# Altium footprint library Connector.PcbLib: 97 footprints (part 1 of 7)
Each footprint in its own frame and in the unit in brackets; x right, y up, seen from the top. Pads: shape width x height; smd on the part's side, far side on the other; paste and mask are expansions set on the pad; w line width, h text height; cw(c..) or ccw(c..) is an arc to the next point about the centre after c.
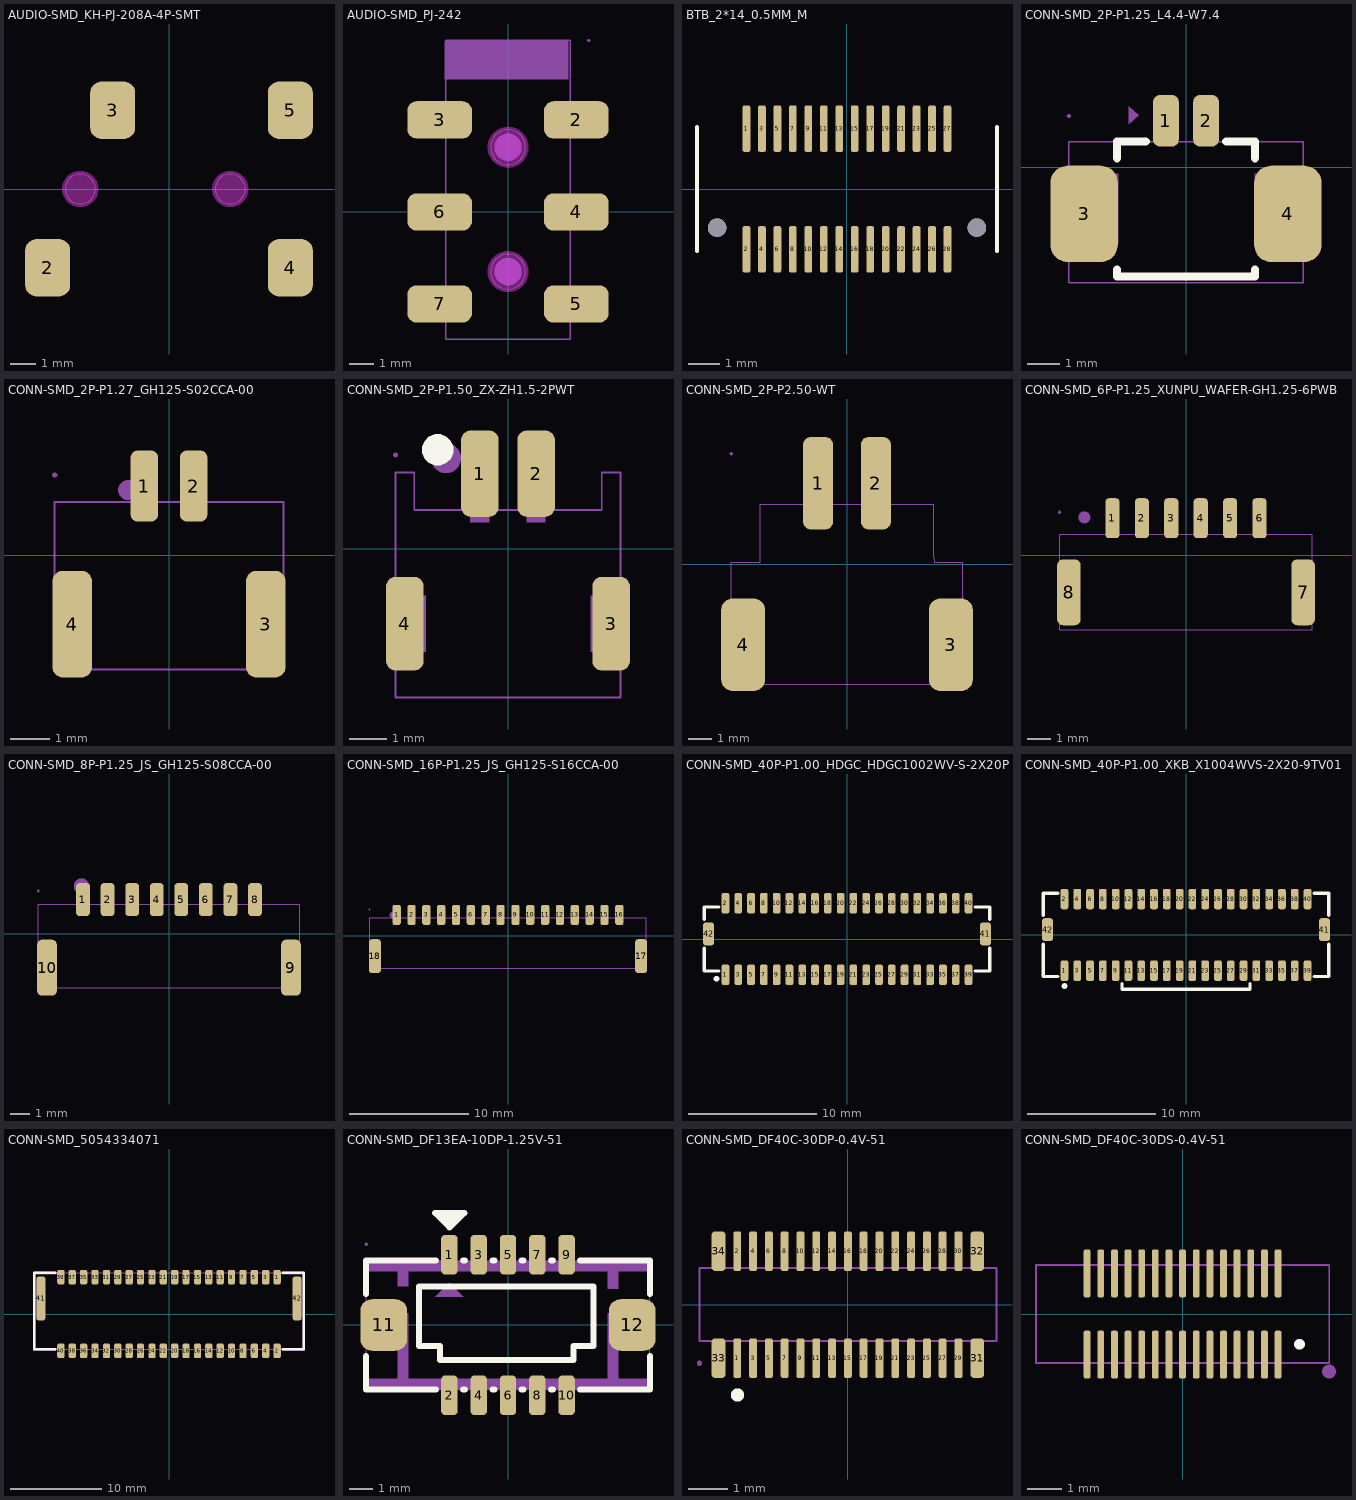
[diagram p0: the footprints below, top view; thin cyan lines are the x and y axes]

## AUDIO-SMD_KH-PJ-208A-4P-SMT [mm]
pads (4):
  rrect50% 1.8x2.3 smd paste+0 mask+0.05: 2(-4.85,-3.15) 3(-2.25,3.15) 4(4.85,-3.15) 5(4.85,3.15)
Keep-Out Layer:
  board cut-out: -2.95,0 -2.95,0.119 -3.041,0.34 -3.21,0.509 -3.431,0.6 -3.669,0.6 -3.89,0.509 -4.059,0.34 -4.15,0.119 -4.15,0 -4.15,-0.119 -4.059,-0.34 -3.89,-0.509 -3.67,-0.6 -3.431,-0.6 -3.21,-0.509 -3.041,-0.34 -2.95,-0.119 -2.95,0
  board cut-out: 3.05,0 3.05,0.119 2.959,0.34 2.79,0.509 2.569,0.6 2.331,0.6 2.11,0.509 1.941,0.34 1.85,0.119 1.85,0 1.85,-0.119 1.941,-0.34 2.11,-0.509 2.33,-0.6 2.569,-0.6 2.79,-0.509 2.959,-0.34 3.05,-0.119 3.05,0
Mechanical 1:
  circle w0.025: c-3.55,0 r0.6
  circle w0.025: c2.45,0 r0.6
Multi-Layer keep-out:
  circle w0.254: c-3.55,0 r0.6
  circle w0.254: c2.45,0 r0.6
3D body "3D_PCB1_2024-08-07.step": height 4.47, standoff -0.83, extent -8.001,-3.75 5.499,3.75

## AUDIO-SMD_PJ-242 [mm]
pads (6):
  rrect50% 2.6x1.5 smd: 2(2.75,3.7) 3(-2.75,3.7) 4(2.75,0) 5(2.75,-3.7) 6(-2.75,0) 7(-2.75,-3.7)
Keep-Out Layer:
  board cut-out: 0.7,2.6 0.7,2.692 0.652,2.87 0.56,3.03 0.43,3.16 0.27,3.252 0.092,3.3 -0.092,3.3 -0.27,3.252 -0.43,3.16 -0.56,3.03 -0.652,2.87 -0.7,2.692 -0.7,2.6 -0.7,2.508 -0.652,2.33 -0.56,2.17 -0.43,2.04 -0.27,1.948 -0.092,1.9 0.092,1.9 0.27,1.948 0.43,2.04 0.56,2.17 0.652,2.33 0.7,2.508 0.7,2.6
  board cut-out: 0.7,-2.4 0.7,-2.308 0.652,-2.13 0.56,-1.97 0.43,-1.84 0.27,-1.748 0.092,-1.7 -0.092,-1.7 -0.27,-1.748 -0.43,-1.84 -0.56,-1.97 -0.652,-2.13 -0.7,-2.308 -0.7,-2.4 -0.7,-2.492 -0.652,-2.67 -0.56,-2.83 -0.43,-2.96 -0.27,-3.052 -0.092,-3.1 0.092,-3.1 0.27,-3.052 0.43,-2.96 0.56,-2.83 0.652,-2.67 0.7,-2.492 0.7,-2.4
Mechanical 1:
  circle w0.025: c0,2.6 r0.7
  circle w0.025: c0,-2.4 r0.7
Mechanical 6:
  circle w0.55: c0,-2.4 r0.275
  circle w0.55: c0,2.6 r0.275
  region: -2.54,6.858 2.413,6.858 2.413,5.334 -2.54,5.334 -2.54,5.588
Mechanical 15:
  region: 3.25,4.2 3.25,3.2 1.45,3.2 1.45,4.2
  region: 3.25,0.5 3.25,-0.5 1.45,-0.5 1.45,0.5
  region: 3.25,-3.2 3.25,-4.2 1.45,-4.2 1.45,-3.2
  region: -1.45,4.2 -1.45,3.2 -3.25,3.2 -3.25,4.2
  region: -1.45,0.5 -1.45,-0.5 -3.25,-0.5 -3.25,0.5
  region: -1.45,-3.2 -1.45,-4.2 -3.25,-4.2 -3.25,-3.2
  region: 3.31,6.892 3.31,6.916 3.275,6.952 3.225,6.952 3.19,6.916 3.19,6.892 3.19,6.867 3.225,6.832 3.275,6.832 3.31,6.867 3.31,6.892
  lines w0.051: -2.5,-5.108 2.5,-5.108 2.5,6.892 -2.5,6.892 -2.5,-5.108
Multi-Layer keep-out:
  circle w0.254: c0,2.6 r0.7
  circle w0.254: c0,-2.4 r0.7

## BTB_2*14_0.5MM_M [mm] "BTB_2*14_公头"
pads (30):
  rrect50% 0.25x1.5 smd: 1(-3.251,1.95) 2(-3.251,-1.95) 3(-2.751,1.95) 4(-2.751,-1.95) 5(-2.251,1.95) 6(-2.251,-1.95) 7(-1.751,1.95) 8(-1.751,-1.95) 9(-1.251,1.95) 10(-1.251,-1.95) 11(-0.751,1.95) 12(-0.751,-1.95) 13(-0.251,1.95) 14(-0.251,-1.95) 15(0.249,1.95) 16(0.249,-1.95) 17(0.749,1.95) 18(0.749,-1.95) 19(1.249,1.95) 20(1.249,-1.95) 21(1.749,1.95) 22(1.749,-1.95) 23(2.249,1.95) 24(2.249,-1.95) 25(2.749,1.95) 26(2.749,-1.95) 27(3.249,1.95) 28(3.249,-1.95)
  round 0.6 hole 0.6 unplated: ""(-4.2,-1.25) ""(4.2,-1.25)
Top Overlay:
  lines w0.127: -4.85,-2 -4.85,2 ; 4.85,-2 4.85,2
3D body "SGDB-M-05-28P.step": height 2.7, standoff -0.5, extent -4.85,-2.6 4.85,2.6

## CONN-SMD_2P-P1.25_L4.4-W7.4 [mm]
pads (4):
  rrect50% 0.8x1.6 smd: 1(-0.625,1.45) 2(0.625,1.45)
  rrect50% 2.1x3 smd: 3(-3.175,-1.45) 4(3.175,-1.45)
Top Overlay:
  lines w0.254: -2.15,-3.181 -2.15,-3.4 2.15,-3.4 2.15,-3.181 ; -2.15,0.281 -2.15,0.8 -1.256,0.8 ; 1.4,0.8 1.256,0.8 2.15,0.8 2.15,0.281
Mechanical 6:
  region: -1.48,1.63 -1.79,1.9 -1.79,1.341
Mechanical 15:
  region: -3.59,1.6 -3.59,1.625 -3.625,1.66 -3.675,1.66 -3.71,1.625 -3.71,1.6 -3.71,1.575 -3.675,1.54 -3.625,1.54 -3.59,1.575 -3.59,1.6
  region: 0.45,1.6 0.8,1.6 0.8,0.75 0.45,0.75
  region: 3.675,-0.2 3.675,-2.36 2.14,-2.36 2.14,-0.2
  region: -3.65,-2.36 -3.65,-0.2 -2.115,-0.2 -2.115,-2.36
  region: -0.8,1.6 -0.45,1.6 -0.45,0.75 -0.8,0.75
  lines w0.051: -3.65,-3.6 3.65,-3.6 3.65,0.8 -3.65,0.8 -3.65,-3.6
3D body "zh1.step": height 3.4, standoff 0, extent -3.825,-3.565 3.825,1.625

## CONN-SMD_2P-P1.27_GH125-S02CCA-00 [mm]
pads (4):
  rrect50% 0.7x1.8 smd paste+0 mask+0.05: 1(-0.625,1.75) 2(0.625,1.75)
  rrect50% 1x2.7 smd paste+0 mask+0.05: 3(2.455,-1.75) 4(-2.455,-1.75)
Mechanical 6:
  circle w0.254: c-1.036,1.651 r0.127
Mechanical 15:
  region: 2.555,-2.9 2.355,-2.9 2.355,-0.9 2.555,-0.9
  region: 0.525,2.03 0.725,2.03 0.725,1.03 0.525,1.03
  region: -0.725,2.03 -0.525,2.03 -0.525,1.03 -0.725,1.03
  region: -2.555,-0.9 -2.355,-0.9 -2.355,-2.9 -2.555,-2.9
  region: -2.84,2.03 -2.84,2.055 -2.875,2.09 -2.925,2.09 -2.96,2.055 -2.96,2.03 -2.96,2.005 -2.925,1.97 -2.875,1.97 -2.84,2.005 -2.84,2.03
  lines w0.051: -2.9,-2.9 2.9,-2.9 2.9,1.35 -2.9,1.35 -2.9,-2.9

## CONN-SMD_2P-P1.50_ZX-ZH1.5-2PWT [mm]
pads (4):
  rrect50% 1x2.3 smd paste+0 mask+0.05: 1(-0.75,2) 2(0.75,2)
  rrect50% 1x2.5 smd paste+0 mask+0.05: 3(2.75,-2) 4(-2.75,-2)
Top Overlay:
  region: -2.285,2.635 -2.285,2.717 -2.222,2.868 -2.107,2.983 -1.956,3.046 -1.792,3.046 -1.641,2.983 -1.526,2.868 -1.463,2.717 -1.463,2.635 -1.463,2.553 -1.526,2.402 -1.641,2.287 -1.792,2.224 -1.956,2.224 -2.107,2.287 -2.222,2.402 -2.285,2.553 -2.285,2.635
Mechanical 6:
  circle w0.4: c-1.651,2.413 r0.2
Mechanical 15:
  region: 2.2,-1.25 3,-1.25 3,-2.75 2.2,-2.75
  region: -3,-1.25 -2.2,-1.25 -2.2,-2.75 -3,-2.75
  region: 1,0.7 0.5,0.7 0.5,2.5 1,2.5
  region: -0.5,0.7 -1,0.7 -1,2.5 -0.5,2.5
  region: -2.94,2.5 -2.94,2.525 -2.975,2.56 -3.025,2.56 -3.06,2.525 -3.06,2.5 -3.06,2.475 -3.025,2.44 -2.975,2.44 -2.94,2.475 -2.94,2.5
  lines w0.051: -3,-3.969 -3,2.031 -2.5,2.031 -2.5,1.031 2.5,1.031 2.5,2.031 3,2.031 3,-3.969 -3,-3.969

## CONN-SMD_2P-P2.50-WT [mm]
pads (4):
  rrect50% 1.3x4 smd mask+0.051: 1(-1.25,3.5) 2(1.25,3.5)
  rrect50% 1.9x4 smd mask+0.051: 3(4.5,-3.5) 4(-4.5,-3.5)
Mechanical 15:
  region: -4.96,4.78 -4.96,4.805 -4.995,4.84 -5.045,4.84 -5.08,4.805 -5.08,4.78 -5.08,4.755 -5.045,4.72 -4.995,4.72 -4.96,4.755 -4.96,4.78
  region: 0.93,4.78 1.57,4.78 1.57,1.78 0.93,1.78
  region: -1.57,4.78 -0.93,4.78 -0.93,1.78 -1.57,1.78
  region: 4.3,-1.72 4.7,-1.72 4.7,-5.22 4.3,-5.22
  region: -4.7,-1.72 -4.3,-1.72 -4.3,-5.22 -4.7,-5.22
  lines w0.051: -5.02,-4.52 -4.17,-4.52 -4.16,-4.53 -4.16,-5.15 -4.17,-5.16 -3.76,-5.16 -3.75,-5.15 -3.75,-5.2 -3.74,-5.21 3.75,-5.22 3.75,-5.16 4.16,-5.16 4.16,-4.54 4.18,-4.52 5,-4.52 5.01,-4.51 5.01,0.08 3.77,0.08 3.76,0.31 3.76,2.58 -3.76,2.58 -3.76,0.08 -5.02,0.08 -5.02,-4.52
3D body "JST - XH - SMD (R) - 2Pin - 2.54mm.stp": height 5.92, standoff 0, extent -5.067,-5.461 5.067,4.445

## CONN-SMD_6P-P1.25_XUNPU_WAFER-GH1.25-6PWB [mm]
pads (8):
  rrect50% 0.6x1.7 smd paste+0 mask+0.05: 1(-3.125,1.575) 2(-1.875,1.575) 3(-0.625,1.575) 4(0.625,1.575) 5(1.875,1.575) 6(3.125,1.575)
  rrect50% 1x2.8 smd paste+0 mask+0.05: 7(4.975,-1.575) 8(-4.975,-1.575)
Mechanical 6:
  circle w0.254: c-4.322,1.613 r0.127
Mechanical 15:
  region: -5.315,1.835 -5.315,1.86 -5.35,1.895 -5.4,1.895 -5.435,1.86 -5.435,1.835 -5.435,1.81 -5.4,1.775 -5.35,1.775 -5.315,1.81 -5.315,1.835
  region: 3.025,1.835 3.225,1.835 3.225,0.835 3.025,0.835
  region: 1.775,1.835 1.975,1.835 1.975,0.835 1.775,0.835
  region: -3.225,1.835 -3.025,1.835 -3.025,0.835 -3.225,0.835
  region: -1.975,1.835 -1.775,1.835 -1.775,0.835 -1.975,0.835
  region: -0.725,1.835 -0.525,1.835 -0.525,0.835 -0.725,0.835
  region: 0.525,1.835 0.725,1.835 0.725,0.835 0.525,0.835
  region: 4.875,-0.575 5.075,-0.575 5.075,-2.575 4.875,-2.575
  region: -5.075,-0.575 -4.875,-0.575 -4.875,-2.575 -5.075,-2.575
  lines w0.051: -5.375,-3.165 -5.375,0.885 5.375,0.885 5.375,-3.165 -5.375,-3.165
3D body "SM06B-GHS-TB.STEP": height 4.28, standoff -0.02, extent -5.375,-2.945 5.375,1.905

## CONN-SMD_8P-P1.25_JS_GH125-S08CCA-00 [mm]
pads (10):
  rrect50% 0.7x1.68 smd paste+0 mask+0.05: 1(-4.375,1.733) 2(-3.125,1.733) 3(-1.875,1.733) 4(-0.625,1.733) 5(0.625,1.733) 6(1.875,1.733) 7(3.125,1.733) 8(4.375,1.733)
  rrect50% 1x2.85 smd paste+0 mask+0.05: 9(6.205,-1.733) 10(-6.205,-1.733)
Mechanical 6:
  circle w0.4: c-4.445,2.413 r0.2
Mechanical 15:
  region: -6.59,2.173 -6.59,2.198 -6.625,2.233 -6.675,2.233 -6.71,2.198 -6.71,2.173 -6.71,2.148 -6.675,2.113 -6.625,2.113 -6.59,2.148 -6.59,2.173
  region: 4.275,2.173 4.475,2.173 4.475,1.473 4.275,1.473
  region: 3.025,2.173 3.225,2.173 3.225,1.473 3.025,1.473
  region: 1.775,2.173 1.975,2.173 1.975,1.473 1.775,1.473
  region: 0.525,2.173 0.725,2.173 0.725,1.473 0.525,1.473
  region: -0.725,2.173 -0.525,2.173 -0.525,1.473 -0.725,1.473
  region: -1.975,2.173 -1.775,2.173 -1.775,1.473 -1.975,1.473
  region: -3.225,2.173 -3.025,2.173 -3.025,1.473 -3.225,1.473
  region: -4.475,2.173 -4.275,2.173 -4.275,1.473 -4.475,1.473
  region: 6.305,-2.757 6.105,-2.757 6.105,-0.947 6.305,-0.947
  region: -6.305,-0.947 -6.105,-0.947 -6.105,-2.757 -6.305,-2.757
  lines w0.051: -6.65,-2.757 -6.65,1.493 6.65,1.493 6.65,-2.757 -6.65,-2.757

## CONN-SMD_16P-P1.25_JS_GH125-S16CCA-00 [mm]
pads (18):
  rrect50% 0.7x1.68 smd paste+0 mask+0.05: 1(-9.375,1.733) 2(-8.125,1.733) 3(-6.875,1.733) 4(-5.625,1.733) 5(-4.375,1.733) 6(-3.125,1.733) 7(-1.875,1.733) 8(-0.625,1.733) 9(0.625,1.733) 10(1.875,1.733) 11(3.125,1.733) 12(4.375,1.733) 13(5.625,1.733) 14(6.875,1.733) 15(8.125,1.733) 16(9.375,1.733)
  rrect50% 1x2.85 smd paste+0 mask+0.05: 17(11.205,-1.733) 18(-11.205,-1.733)
Mechanical 6:
  circle w0.254: c-9.715,1.728 r0.127
Mechanical 15:
  region: -11.305,-0.828 -11.105,-0.828 -11.105,-2.638 -11.305,-2.638
  region: 11.305,-2.638 11.105,-2.638 11.105,-0.828 11.305,-0.828
  region: 8.025,2.178 8.225,2.178 8.225,1.178 8.025,1.178
  region: 6.775,2.178 6.975,2.178 6.975,1.178 6.775,1.178
  region: 5.525,2.178 5.725,2.178 5.725,1.178 5.525,1.178
  region: 4.275,2.178 4.475,2.178 4.475,1.178 4.275,1.178
  region: 3.025,2.178 3.225,2.178 3.225,1.178 3.025,1.178
  region: 1.775,2.178 1.975,2.178 1.975,1.178 1.775,1.178
  region: 0.525,2.178 0.725,2.178 0.725,1.178 0.525,1.178
  region: -0.725,2.178 -0.525,2.178 -0.525,1.178 -0.725,1.178
  region: -1.975,2.178 -1.775,2.178 -1.775,1.178 -1.975,1.178
  region: -3.225,2.178 -3.025,2.178 -3.025,1.178 -3.225,1.178
  region: -4.475,2.178 -4.275,2.178 -4.275,1.178 -4.475,1.178
  region: -5.725,2.178 -5.525,2.178 -5.525,1.178 -5.725,1.178
  region: -6.975,2.178 -6.775,2.178 -6.775,1.178 -6.975,1.178
  region: -8.225,2.178 -8.025,2.178 -8.025,1.178 -8.225,1.178
  region: -9.475,2.178 -9.275,2.178 -9.275,1.178 -9.475,1.178
  region: 9.275,2.178 9.475,2.178 9.475,1.178 9.275,1.178
  region: -11.59,2.178 -11.59,2.202 -11.625,2.238 -11.675,2.238 -11.71,2.202 -11.71,2.178 -11.71,2.153 -11.675,2.118 -11.625,2.118 -11.59,2.153 -11.59,2.178
  lines w0.051: -11.65,-2.752 11.65,-2.752 11.65,1.498 -11.65,1.498 -11.65,-2.752

## CONN-SMD_40P-P1.00_HDGC_HDGC1002WV-S-2X20P [mm]
pads (42):
  rrect50% 0.6x1.6 smd paste+0 mask+0.05: 1(-9.5,-2.8) 2(-9.5,2.8) 3(-8.5,-2.8) 4(-8.5,2.8) 5(-7.5,-2.8) 6(-7.5,2.8) 7(-6.5,-2.8) 8(-6.5,2.8) 9(-5.5,-2.8) 10(-5.5,2.8) 11(-4.5,-2.8) 12(-4.5,2.8) 13(-3.5,-2.8) 14(-3.5,2.8) 15(-2.5,-2.8) 16(-2.5,2.8) 17(-1.5,-2.8) 18(-1.5,2.8) 19(-0.5,-2.8) 20(-0.5,2.8) 21(0.5,-2.8) 22(0.5,2.8) 23(1.5,-2.8) 24(1.5,2.8) 25(2.5,-2.8) 26(2.5,2.8) 27(3.5,-2.8) 28(3.5,2.8) 29(4.5,-2.8) 30(4.5,2.8) 31(5.5,-2.8) 32(5.5,2.8) 33(6.5,-2.8) 34(6.5,2.8) 35(7.5,-2.8) 36(7.5,2.8) 37(8.5,-2.8) 38(8.5,2.8) 39(9.5,-2.8) 40(9.5,2.8)
  rrect50% 0.85x1.8 smd paste+0 mask+0.05: 41(10.825,0.4) 42(-10.825,0.4)
Top Overlay:
  circle w0.254: c-10.2,-3.1 r0.1
  lines w0.254: -11.15,-0.731 -11.15,-2.5 -10.031,-2.5 ; -11.15,1.531 -11.15,2.5 -10.031,2.5 ; 10.031,-2.5 11.15,-2.5 11.15,-0.731 ; 10.031,2.5 11.15,2.5 11.15,1.531

## CONN-SMD_40P-P1.00_XKB_X1004WVS-2X20-9TV01 [mm]
pads (42):
  rrect50% 0.6x1.6 smd paste+0 mask+0.05: 1(-9.5,-2.8) 2(-9.5,2.8) 3(-8.5,-2.8) 4(-8.5,2.8) 5(-7.5,-2.8) 6(-7.5,2.8) 7(-6.5,-2.8) 8(-6.5,2.8) 9(-5.5,-2.8) 10(-5.5,2.8) 11(-4.5,-2.8) 12(-4.5,2.8) 13(-3.5,-2.8) 14(-3.5,2.8) 15(-2.5,-2.8) 16(-2.5,2.8) 17(-1.5,-2.8) 18(-1.5,2.8) 19(-0.5,-2.8) 20(-0.5,2.8) 21(0.5,-2.8) 22(0.5,2.8) 23(1.5,-2.8) 24(1.5,2.8) 25(2.5,-2.8) 26(2.5,2.8) 27(3.5,-2.8) 28(3.5,2.8) 29(4.5,-2.8) 30(4.5,2.8) 31(5.5,-2.8) 32(5.5,2.8) 33(6.5,-2.8) 34(6.5,2.8) 35(7.5,-2.8) 36(7.5,2.8) 37(8.5,-2.8) 38(8.5,2.8) 39(9.5,-2.8) 40(9.5,2.8)
  rrect50% 0.85x1.8 smd paste+0 mask+0.05: 41(10.825,0.4) 42(-10.825,0.4)
Top Overlay:
  circle w0.254: c-9.5,-4 r0.1
  lines w0.254: -11.15,-0.731 -11.15,-3.25 -10.031,-3.25 ; -11.15,1.531 -11.15,3.25 -10.031,3.25 ; -5,-3.831 -5,-4.25 5,-4.25 5,-3.831 ; 10.031,-3.25 11.15,-3.25 11.15,-0.731 ; 10.031,3.25 11.15,3.25 ; 11.15,3.25 11.15,1.531

## CONN-SMD_5054334071 [mm]
pads (42):
  rrect50% 0.8x1.6 smd paste+0 mask+0.05: 1(11.875,4.05) 2(11.875,-4.05) 3(10.625,4.05) 4(10.625,-4.05) 5(9.375,4.05) 6(9.375,-4.05) 7(8.125,4.05) 8(8.125,-4.05) 9(6.875,4.05) 10(6.875,-4.05) 11(5.625,4.05) 12(5.625,-4.05) 13(4.375,4.05) 14(4.375,-4.05) 15(3.125,4.05) 16(3.125,-4.05) 17(1.875,4.05) 18(1.875,-4.05) 19(0.625,4.05) 20(0.625,-4.05) 21(-0.625,4.05) 22(-0.625,-4.05) 23(-1.875,4.05) 24(-1.875,-4.05) 25(-3.125,4.05) 26(-3.125,-4.05) 27(-4.375,4.05) 28(-4.375,-4.05) 29(-5.625,4.05) 30(-5.625,-4.05) 31(-6.875,4.05) 32(-6.875,-4.05) 33(-8.125,4.05) 34(-8.125,-4.05) 35(-9.375,4.05) 36(-9.375,-4.05) 37(-10.625,4.05) 38(-10.625,-4.05) 39(-11.875,4.05) 40(-11.875,-4.05)
  rrect50% 1x4.8 smd paste+0 mask+0.05: 41(-14.075,1.705) 42(14.075,1.705)
Top Overlay:
  lines w0.254: -12.506,-3.875 -14.8,-3.875 -14.8,4.525 -12.506,4.525 ; 12.506,-3.875 14.8,-3.875 14.8,4.525 12.506,4.525
Mechanical 6:
  region: 12.5,4.627 14.8,4.627 14.825,4.627 14.872,4.608 14.908,4.572 14.927,4.525 14.927,4.5 14.927,-3.9 14.927,-3.925 14.908,-3.972 14.872,-4.008 14.825,-4.027 14.8,-4.027 12.5,-4.027 12.447,-4.027 12.373,-3.953 12.373,-3.847 12.447,-3.773 12.5,-3.773 14.673,-3.773 14.673,4.373 12.5,4.373 12.447,4.373 12.373,4.447 12.373,4.553 12.447,4.627 12.5,4.627
  region: -12.5,4.373 -14.673,4.373 -14.673,-3.773 -12.5,-3.773 -12.447,-3.773 -12.373,-3.847 -12.373,-3.953 -12.447,-4.027 -12.5,-4.027 -14.8,-4.027 -14.825,-4.027 -14.872,-4.008 -14.908,-3.972 -14.927,-3.925 -14.927,-3.9 -14.927,4.5 -14.927,4.525 -14.908,4.572 -14.872,4.608 -14.825,4.627 -14.8,4.627 -12.5,4.627 -12.447,4.627 -12.373,4.553 -12.373,4.447 -12.447,4.373 -12.5,4.373
Mechanical 15:
  drawing of 47 lines, arcs and shapes, not listed

## CONN-SMD_DF13EA-10DP-1.25V-51 [mm]
pads (12):
  rrect50% 0.7x1.7 smd mask+0.051: 1(-2.5,3) 2(-2.5,-3) 3(-1.25,3) 4(-1.25,-3) 5(0,3) 6(0,-3) 7(1.25,3) 8(1.25,-3) 9(2.5,3) 10(2.5,-3)
  rrect50% 2x2.2 smd mask+0.051: 11(-5.3,0) 12(5.3,0)
Top Overlay:
  region: -2.488,4.163 -1.863,4.787 -3.112,4.787
  lines w0.254: -6.05,-1.331 -6.05,-2.75 -3.081,-2.75 ; -6.05,1.331 -6.05,2.75 -3.081,2.75 ; -3.8,1.65 -3.8,-0.9 -2.9,-0.9 -2.9,-1.5 2.8,-1.5 2.8,-0.9 3.65,-0.9 3.65,1.65 -3.75,1.65 ; -1.919,-2.75 -1.831,-2.75 ; -1.919,2.75 -1.831,2.75 ; -0.669,-2.75 -0.581,-2.75 ; -0.669,2.75 -0.581,2.75 ; 0.581,-2.75 0.669,-2.75 ; 0.581,2.75 0.669,2.75 ; 1.831,-2.75 1.919,-2.75 ; 1.831,2.75 1.919,2.75 ; 3.081,-2.75 6.05,-2.75 6.05,-1.331 ; 3.081,2.75 5.625,2.75 6.05,2.75 6.05,1.331 ; -3.112,4.787 -2.488,4.163 -1.863,4.787 -3.112,4.787
Mechanical 6:
  region: -3.1,1.2 -2.5,1.8 -1.9,1.2 -3.1,1.2
  region: 6.05,-2.75 6.05,-2.3 4.7,-2.3 4.7,0.5 4.25,0.5 4.25,-2.3 -4.25,-2.3 -4.25,0.5 -4.7,0.5 -4.7,-2.3 -6.05,-2.3 -6.05,-2.75
  region: -6.05,2.75 -6.05,2.3 -4.7,2.3 -4.7,1.65 -4.25,1.65 -4.25,2.3 4.25,2.3 4.25,1.55 4.7,1.55 4.7,2.3 6.05,2.3 6.05,2.75
Mechanical 15:
  region: 2.675,-3.45 2.325,-3.45 2.325,-2.2 2.675,-2.2
  region: 1.425,-3.45 1.075,-3.45 1.075,-2.2 1.425,-2.2
  region: 0.175,-3.45 -0.175,-3.45 -0.175,-2.2 0.175,-2.2
  region: -1.075,-3.45 -1.425,-3.45 -1.425,-2.2 -1.075,-2.2
  region: -2.325,-3.45 -2.675,-3.45 -2.675,-2.2 -2.325,-2.2
  region: 2.325,3.45 2.675,3.45 2.675,2.2 2.325,2.2
  region: 1.075,3.45 1.425,3.45 1.425,2.2 1.075,2.2
  region: -0.175,3.45 0.175,3.45 0.175,2.2 -0.175,2.2
  region: -1.425,3.45 -1.075,3.45 -1.075,2.2 -1.425,2.2
  region: -6.05,0.9 -4.55,0.9 -4.55,-0.9 -6.05,-0.9
  region: 4.55,0.9 6.05,0.9 6.05,-0.9 4.55,-0.9
  region: -2.675,3.45 -2.325,3.45 -2.325,2.2 -2.675,2.2
  region: -5.99,3.45 -5.99,3.475 -6.025,3.51 -6.075,3.51 -6.11,3.475 -6.11,3.45 -6.11,3.425 -6.075,3.39 -6.025,3.39 -5.99,3.425 -5.99,3.45
  lines w0.051: -6.05,-2.75 6.05,-2.75 6.05,2.75 -6.05,2.75 -6.05,-2.75
3D body "DF13EA-10DP-1.25V.STEP": height 4.8, standoff 0, extent -6.05,-3.45 6.05,3.45

## CONN-SMD_DF40C-30DP-0.4V-51 [mm] "公座"
pads (34):
  rrect50% 0.2x1 smd: 1(-2.8,-1.355) 2(-2.8,1.355) 3(-2.4,-1.355) 4(-2.4,1.355) 5(-2,-1.355) 6(-2,1.355) 7(-1.6,-1.355) 8(-1.6,1.355) 9(-1.2,-1.355) 10(-1.2,1.355) 11(-0.8,-1.355) 12(-0.8,1.355) 13(-0.4,-1.355) 14(-0.4,1.355) 15(0,-1.355) 16(0,1.355) 17(0.4,-1.355) 18(0.4,1.355) 19(0.8,-1.355) 20(0.8,1.355) 21(1.2,-1.355) 22(1.2,1.355) 23(1.6,-1.355) 24(1.6,1.355) 25(2,-1.355) 26(2,1.355) 27(2.4,-1.355) 28(2.4,1.355) 29(2.8,-1.355) 30(2.8,1.355)
  rrect50% 0.35x1 smd: 31(3.275,-1.355) 32(3.275,1.355) 33(-3.275,-1.355) 34(-3.275,1.355)
Top Overlay:
  circle w0.254: c-2.794,-2.286 r0.041
Mechanical 15:
  drawing of 73 lines, arcs and shapes, not listed
3D body "1.step": height 1.11, standoff -0.03, extent -3.76,-1.485 3.761,1.485

## CONN-SMD_DF40C-30DS-0.4V-51 [mm] "母座"
pads (30):
  rrect50% 0.2x1.4 smd paste+0 mask+0.05: 1(2.8,-1.19) 2(2.8,1.19) 3(2.4,-1.19) 4(2.4,1.19) 5(2,-1.19) 6(2,1.19) 7(1.6,-1.19) 8(1.6,1.19) 9(1.2,-1.19) 10(1.2,1.19) 11(0.8,-1.19) 12(0.8,1.19) 13(0.4,-1.19) 14(0.4,1.19) 15(0,-1.19) 16(0,1.19) 17(-0.4,-1.19) 18(-0.4,1.19) 19(-0.8,-1.19) 20(-0.8,1.19) 21(-1.2,-1.19) 22(-1.2,1.19) 23(-1.6,-1.19) 24(-1.6,1.19) 25(-2,-1.19) 26(-2,1.19) 27(-2.4,-1.19) 28(-2.4,1.19) 29(-2.8,-1.19) 30(-2.8,1.19)
Top Overlay:
  circle w0.254: c3.429,-0.889 r0.032
Mechanical 15:
  drawing of 35 lines, arcs and shapes, not listed
3D body "2.step": height 1.42, standoff -0.03, extent -4.3,-1.69 4.301,1.69